# EAGLE library part 74HC4066BQ,115 (library pimoroni-ics)
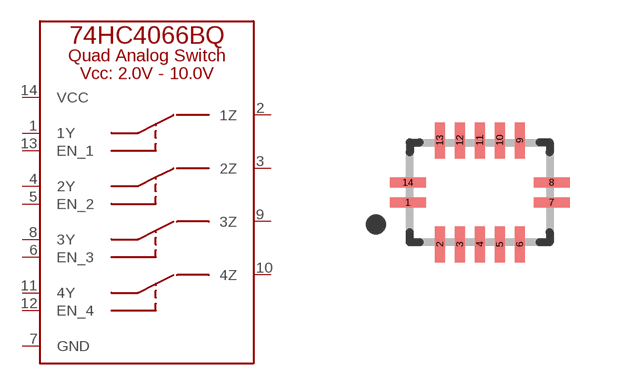
[diagram p149: symbol with the pads of DHVQFN14_SOT762-1; footprint DHVQFN14_SOT762-1]

Designator prefix U

## 74HC4066BQ,115  [DHVQFN14_SOT762-1]
1  1Y
2  1Z
3  2Z
4  2Y
5  EN_2
6  EN_3
7  GND
8  3Y
9  3Z
10  4Z
11  4Y
12  EN_4
13  EN_1
14  VCC

## Footprint DHVQFN14_SOT762-1 (pad centres in mm)
smd 0.9 x 0.25: 1 -1.8,-0.25; 7 1.8,-0.25; 8 1.8,0.25; 14 -1.8,0.25
smd 0.25 x 0.9: 2 -1,-1.3; 3 -0.5,-1.3; 4 0,-1.3; 5 0.5,-1.3; 6 1,-1.3; 9 1,1.3; 10 0.5,1.3; 11 0,1.3; 12 -0.5,1.3; 13 -1,1.3